# Altium schematic symbol library SamacSys.SchLib: 7 symbols
Pins are listed as number, name and electrical type; pins without a type are passive.

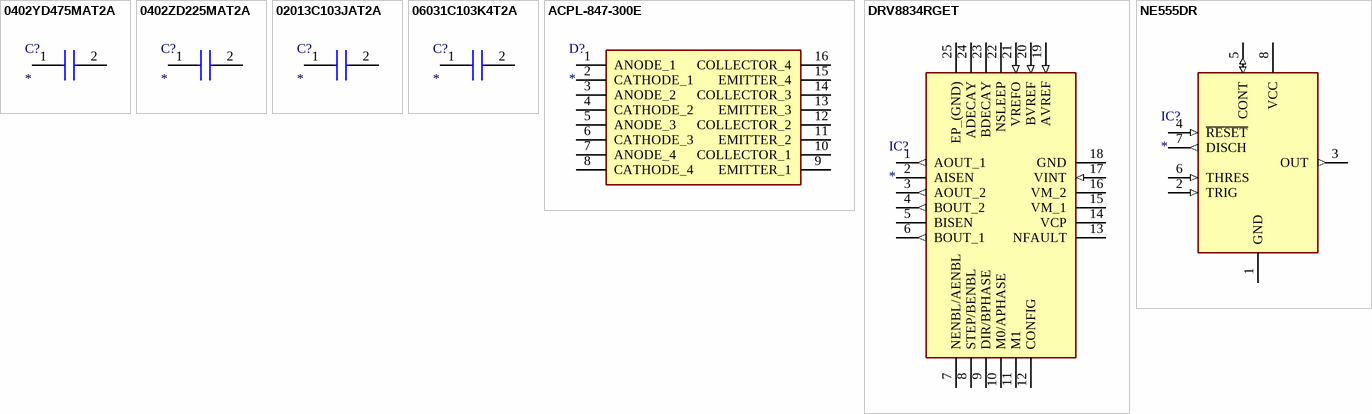
[diagram p0: symbols 0402YD475MAT2A to NE555DR]

## 0402YD475MAT2A
designator C?
Capacitor; Manufacturer_Name: AVX; Manufacturer_Part_Number: 0402YD475MAT2A; Description: Multilayer Ceramic Capacitors MLCC - SMD/SMT 16V 4.7uF 20% X5R 0402; Datasheet Link: http://www.mouser.com/catalog/supplier/library/pdf/AVXSurfaceMountCeramic.pdf; Height: 0.56mm; Arrow Part Number: 0402YD475MAT2A; Mouser Part Number: 581-0402YD475MAT2A; Mouser Price/Stock: https://www.mouser.co.uk/ProductDetail/AVX/0402YD475MAT2A?qs=s6nfgz3miVxwCmHE9M6tUg%3D%3D
footprint CAPC1005X56N
pins: 1, 2

## 0402ZD225MAT2A
designator C?
Capacitor; Manufacturer_Name: AVX; Manufacturer_Part_Number: 0402ZD225MAT2A; Description: Multilayer Ceramic Capacitors MLCC - SMD/SMT 25V 10uF 0603 20% X5R; Datasheet Link: http://www.mouser.com/catalog/supplier/library/pdf/AVXSurfaceMountCeramic.pdf; Height: 0.56mm; Arrow Part Number: 0402ZD225MAT2A; Arrow Price/Stock: https://www.arrow.com/en/products/0402zd225mat2a/avx; Mouser Part Number: 581-0402ZD225MAT2A; Mouser Price/Stock: https://www.mouser.co.uk/ProductDetail/AVX/0402ZD225MAT2A?qs=ZBeOGGPQgEESIGO3bvTmzg%3D%3D
footprint CAPC1005X56N
pins: 1, 2

## 02013C103JAT2A
designator C?
Capacitor; Manufacturer_Name: AVX; Manufacturer_Part_Number: 02013C103JAT2A; Description: Multilayer Ceramic Capacitors MLCC - SMD/SMT 25V 0.01uF 5%; Datasheet Link: http://www.mouser.com/catalog/supplier/library/pdf/AVXSurfaceMountCeramic.pdf; Height: 0.33mm; Arrow Part Number: 02013C103JAT2A; Mouser Part Number: 581-02013C103JAT2A; Mouser Price/Stock: https://www.mouser.com/Search/Refine.aspx?Keyword=581-02013C103JAT2A
footprint CAPC0603X33N
pins: 1, 2

## 06031C103K4T2A
designator C?
Capacitor; Manufacturer_Name: AVX; Manufacturer_Part_Number: 06031C103K4T2A; Description: AVX - 06031C103K4T2A - CERAMIC CAPACITOR 0.01UF 100V; Datasheet Link: http://www.mouser.com/catalog/supplier/library/pdf/AVXSurfaceMountCeramic.pdf; Height: 0.9mm; Arrow Part Number: 06031C103K4T2A; Arrow Price/Stock: https://www.arrow.com/en/products/06031c103k4t2a/avx; Mouser Part Number: 581-06031C103K4T2A; Mouser Price/Stock: https://www.mouser.com/Search/Refine.aspx?Keyword=581-06031C103K4T2A
footprint CAPC1608X90N
pins: 1, 2

## ACPL-847-300E
designator D?
Diode; Manufacturer_Name: Avago Technologies; Manufacturer_Part_Number: ACPL-847-300E; Datasheet Link: https://docs.broadcom.com/docs/AV02-1429EN; Height: 4.6mm; Mouser Part Number: 630-ACPL-847-300E; Mouser Price/Stock: https://www.mouser.com/Search/Refine.aspx?Keyword=630-ACPL-847-300E; RS Part Number: 6935959P; RS Price/Stock: http://uk.rs-online.com/web/p/products/6935959P
footprint SOP254P1016X460-16N
pins: 1 ANODE_1, 2 CATHODE_1, 3 ANODE_2, 4 CATHODE_2, 5 ANODE_3, 6 CATHODE_3, 7 ANODE_4, 8 CATHODE_4, 9 EMITTER_1, 10 COLLECTOR_1, 11 EMITTER_2, 12 COLLECTOR_2, 13 EMITTER_3, 14 COLLECTOR_3, 15 EMITTER_4, 16 COLLECTOR_4

## DRV8834RGET
designator IC?
Integrated Circuit; Manufacturer_Name: Texas Instruments; Manufacturer_Part_Number: DRV8834RGET; Datasheet Link: http://www.ti.com/lit/ds/symlink/drv8834.pdf; Height: 1mm; Arrow Part Number: DRV8834RGET; Arrow Price/Stock: https://www.arrow.com/en/products/drv8834rget/texas-instruments; Mouser Part Number: 595-DRV8834RGET; Mouser Price/Stock: https://www.mouser.co.uk/ProductDetail/Texas-Instruments/DRV8834RGET?qs=UFc95S4Z4CavAnnExp%2F5Mg%3D%3D
footprint QFN50P400X400X100-25N-D
pins: 1 AOUT_1 (out), 2 AISEN, 3 AOUT_2 (out), 4 BOUT_2 (out), 5 BISEN, 6 BOUT_1 (out), 7 NENBL/AENBL, 8 STEP/BENBL, 9 DIR/BPHASE, 10 M0/APHASE, 11 M1, 12 CONFIG, 13 NFAULT, 14 VCP, 15 VM_1, 16 VM_2, 17 VINT (in), 18 GND (power), 19 AVREF (in), 20 BVREF (in), 21 VREFO (in), 22 NSLEEP, 23 BDECAY, 24 ADECAY, 25 EP_(GND) (power)

## NE555DR
designator IC?
Integrated Circuit; Manufacturer_Name: Texas Instruments; Manufacturer_Part_Number: NE555DR; Datasheet Link: http://www.ti.com/lit/ds/symlink/ne555.pdf; Height: 1.75mm; Mouser Part Number: 595-NE555DR; Mouser Price/Stock: https://www.mouser.com/Search/Refine.aspx?Keyword=595-NE555DR; RS Part Number: 1218414; RS Price/Stock: http://uk.rs-online.com/web/p/products/1218414
footprint SOIC127P600X175-8N
pins: 1 GND (power), 2 TRIG (in), 3 OUT (out), 4 ~{RESET} (in), 5 CONT (io), 6 THRES (in), 7 DISCH (out), 8 VCC (power)